# Altium footprint library 控制模块.PcbLib: 25 footprints (part 2 of 2)
Each footprint in its own frame and in the unit in brackets; x right, y up, seen from the top. Pads: shape width x height; smd on the part's side, far side on the other; paste and mask are expansions set on the pad; w line width, h text height; cw(c..) or ccw(c..) is an arc to the next point about the centre after c.
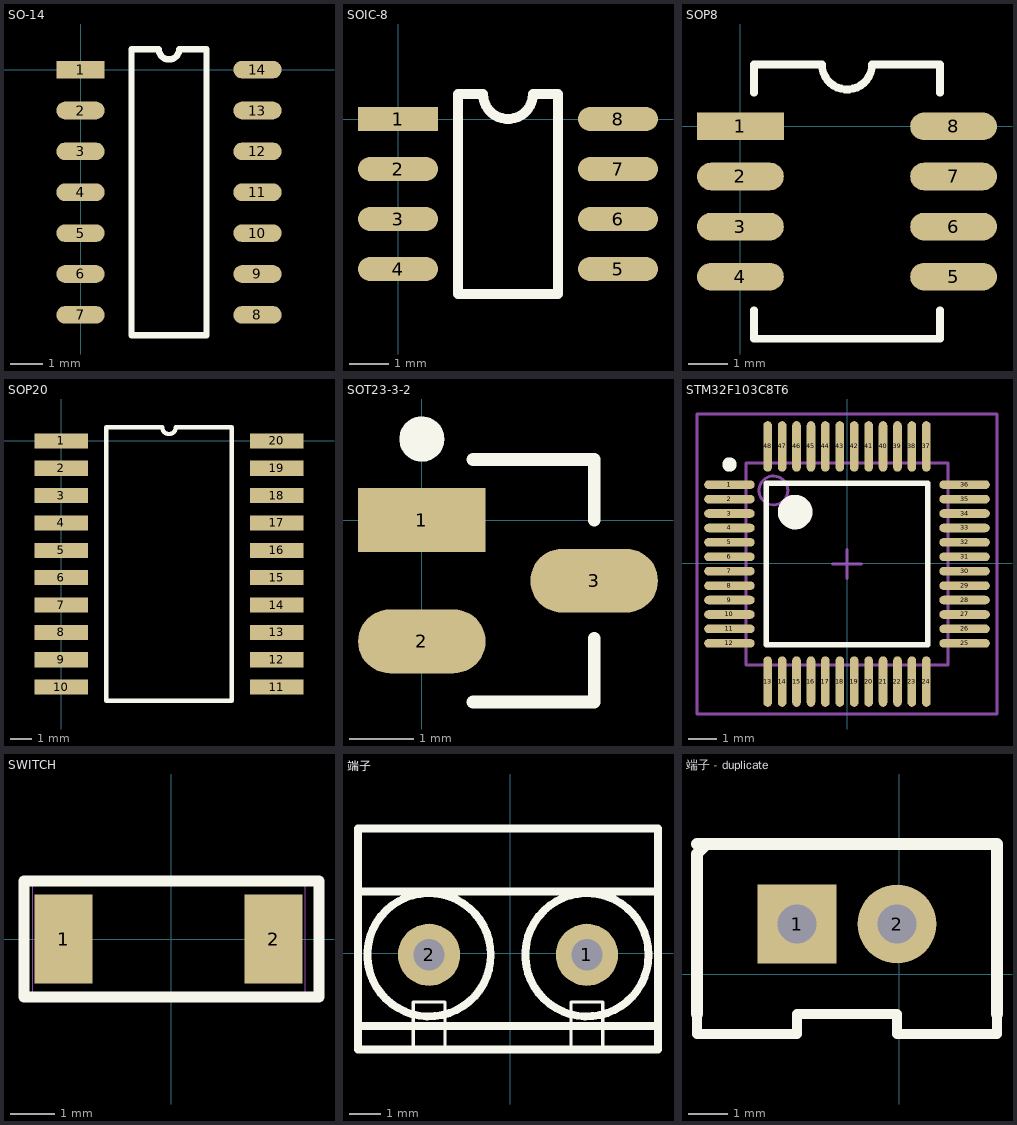
[diagram p1: the footprints below, top view; thin cyan lines are the x and y axes]

## SO-14 [mm]
pads (14):
  rect 1.5x0.55 smd: 1(0,0)
  oval 1.5x0.55 smd: 2(0,-1.27) 3(0,-2.54) 4(0,-3.81) 5(0,-5.08) 6(0,-6.35) 7(0,-7.62) 8(5.5,-7.62) 9(5.5,-6.35) 10(5.5,-5.08) 11(5.5,-3.81) 12(5.5,-2.54) 13(5.5,-1.27) 14(5.5,0)
Top Overlay:
  lines w0.2: 1.585,-8.255 3.915,-8.255 3.915,0.635 3.068,0.635 cw(c2.75,0.635) 2.433,0.635 1.585,0.635 1.585,-8.255

## SOIC-8 [mil]
pads (8):
  rect 80x24 smd: 1(0,0)
  oval 80x24 smd: 2(0,-50) 3(0,-100) 4(0,-150) 5(220,-150) 6(220,-100) 7(220,-50) 8(220,0)
Top Overlay:
  lines w10: 60,-175 60,25 85,25 ccw(c110,25) 135,25 160,25 160,-175 60,-175

## SOP8 [mm]
pads (8):
  rect 2.2x0.7 smd: 1(0,0)
  oval 2.2x0.7 smd: 2(0,-1.27) 3(0,-2.54) 4(0,-3.81) 5(5.4,-3.81) 6(5.4,-2.54) 7(5.4,-1.27) 8(5.4,0)
Top Overlay:
  lines w0.2: 0.34,-4.66 0.34,-5.38 5.06,-5.38 5.06,-4.66 ; 0.34,0.85 0.34,1.57 2.065,1.57 ccw(c2.7,1.57) 3.335,1.57 5.06,1.57 5.06,0.85

## SOP20 [mm]
height 0.762
pads (20):
  rect 2.5x0.7 smd: 1(0,0) 2(0,-1.27) 3(0,-2.54) 4(0,-3.81) 5(0,-5.08) 6(0,-6.35) 7(0,-7.62) 8(0,-8.89) 9(0,-10.16) 10(0,-11.43) 11(10,-11.43) 12(10,-10.16) 13(10,-8.89) 14(10,-7.62) 15(10,-6.35) 16(10,-5.08) 17(10,-3.81) 18(10,-2.54) 19(10,-1.27) 20(10,0)
Top Overlay:
  lines w0.2: 2.085,-12.065 2.085,0.635 4.683,0.635 ccw(c5,0.635) 5.318,0.635 7.915,0.635 7.915,-12.065 2.085,-12.065

## SOT23-3-2 [mm]
pads (3):
  rect 2x1 smd: 1(0,0)
  oval 2x1 smd: 2(0,-1.9) 3(2.7,-0.95)
Top Overlay:
  circle w0.2: c0,1.27 r0.254
  rectangle: -0.254,1.016 0.254,1.524
  lines w0.2: 0.8,-2.85 2.7,-2.85 2.7,-1.85 ; 0.8,0.95 2.7,0.95 ; 2.7,0 2.7,0.889

## STM32F103C8T6 [mm]
pads (48):
  oval 1.75x0.3 smd: 1(-4.082,2.726) 2(-4.082,2.226) 3(-4.082,1.726) 4(-4.082,1.226) 5(-4.082,0.726) 6(-4.082,0.226) 7(-4.082,-0.274) 8(-4.082,-0.774) 9(-4.082,-1.274) 10(-4.082,-1.774) 11(-4.082,-2.274) 12(-4.082,-2.774) 25(4.068,-2.774) 26(4.068,-2.274) 27(4.068,-1.774) 28(4.068,-1.274) 29(4.068,-0.774) 30(4.068,-0.274) 31(4.068,0.226) 32(4.068,0.726) 33(4.068,1.226) 34(4.068,1.726) 35(4.068,2.226) 36(4.068,2.726)
  oval 0.3x1.75 smd: 13(-2.757,-4.099) 14(-2.257,-4.099) 15(-1.757,-4.099) 16(-1.257,-4.099) 17(-0.757,-4.099) 18(-0.257,-4.099) 19(0.243,-4.099) 20(0.743,-4.099) 21(1.243,-4.099) 22(1.744,-4.099) 23(2.243,-4.099) 24(2.743,-4.099) 37(2.743,4.051) 38(2.243,4.051) 39(1.743,4.051) 40(1.243,4.051) 41(0.743,4.051) 42(0.243,4.051) 43(-0.257,4.051) 44(-0.757,4.051) 45(-1.257,4.051) 46(-1.757,4.051) 47(-2.257,4.051) 48(-2.757,4.051)
Top Overlay:
  circle w0.25: c-4.082,3.426 r0.125
  circle w0.6: c-1.807,1.776 r0.3
  lines w0.2: -2.807,-2.824 -2.807,2.776 2.793,2.776 2.793,-2.824 -2.807,-2.824
Mechanical 13:
  circle w0.1: c-2.557,2.526 r0.5
  lines w0.1: -3.507,-3.524 -3.507,3.476 3.493,3.476 3.493,-3.524 -3.507,-3.524
Mechanical 15:
  lines w0.1: -0.507,-0.024 0.493,-0.024 ; -0.007,-0.524 -0.007,0.476 ; -5.207,-5.224 -5.207,5.176 5.193,5.176 5.193,-5.224 -5.207,-5.224

## SWITCH [mm]
pads (2):
  rect 1.3x2 smd paste+0 mask+0.2: 1(-2.413,0) 2(2.287,0)
Top Overlay:
  lines w0.254: -3.301,-1.3 -3.301,1.3 3.303,1.3 3.303,-1.3 -3.301,-1.3
Mechanical 1:
  lines w0.025: -3.108,-1.3 -3.108,1.3 2.992,1.3 2.992,-1.3 -3.108,-1.3
Mechanical 2:
  lines w0.003: -3.108,-1.3 -3.108,1.3 2.992,1.3 2.992,-1.3 -3.108,-1.3

## 端子 [mm]
pads (2):
  round 2 hole 1: 1(2.464,-0.051) 2(-2.616,-0.051)
Top Overlay:
  circle w0.254: c2.464,-0.051 r1.984
  circle w0.254: c-2.616,-0.051 r1.984
  lines w0.1: -3.124,-3.099 -3.124,-1.575 -2.108,-1.575 -2.108,-3.099 ; 1.956,-3.099 1.956,-1.575 2.972,-1.575 2.972,-3.099
  lines w0.254: -4.902,-2.337 4.75,-2.337 ; -4.902,1.981 4.75,1.981 ; -4.902,-3.099 -4.902,-0.051 -4.902,4.013 4.75,4.013 4.75,-0.051 4.75,-3.099 2.464,-3.099 -4.902,-3.099

## 端子 - duplicate [mm]
pads (2):
  rect 2x2 hole 1: 1(-2.591,1.27)
  round 2 hole 1: 2(-0.051,1.27)
Top Overlay:
  lines w0.254: -5.131,-1.016 -5.131,-1.524 -2.591,-1.524 -2.591,-1.016 -0.051,-1.016 -0.051,-1.524 2.489,-1.524 2.489,-0.508
  lines w0.3: -5.131,-1.016 -5.131,3.048 -4.877,3.302 ; -5.131,3.302 2.489,3.302 2.489,-1.016